# EAGLE library part LT1963AEQ (library linear-technology)
LDO Regulator 1.5A, Low Noise, Fast Transient Response
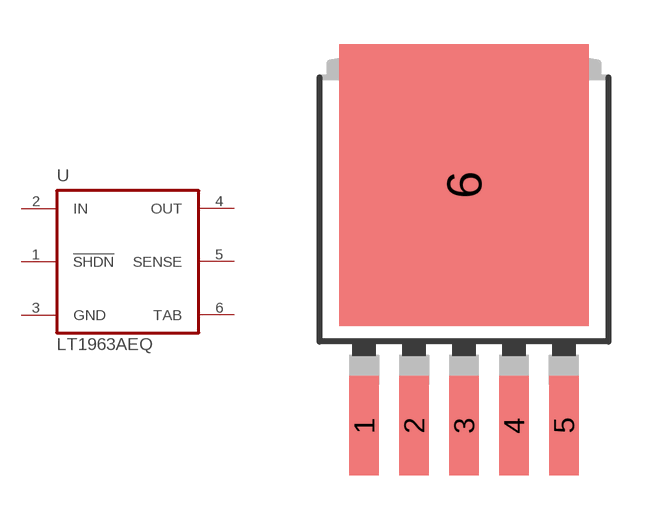
[diagram p32: symbol with the pads of Q5-DD; footprint Q5-DD]

Designator prefix U

## LT1963AEQ  [Q5-DD]
1  !SHDN!  pas
2  IN  in
3  GND  pas
4  OUT  out
5  SENSE  pas
6  TAB  pas

## Footprint Q5-DD (pad centres in mm)
Q5-DD
smd 1 x 3.4: 1 -3.4,-7.875; 2 -1.7,-7.875; 3 0,-7.875; 4 1.7,-7.875; 5 3.4,-7.875
smd 8.5 x 9.6: 6 0,0.325